# Altium integrated library Wurth-inductor.IntLib: 175 symbols (part 1 of 3)
Pins are listed as number, name and electrical type; pins without a type are passive.

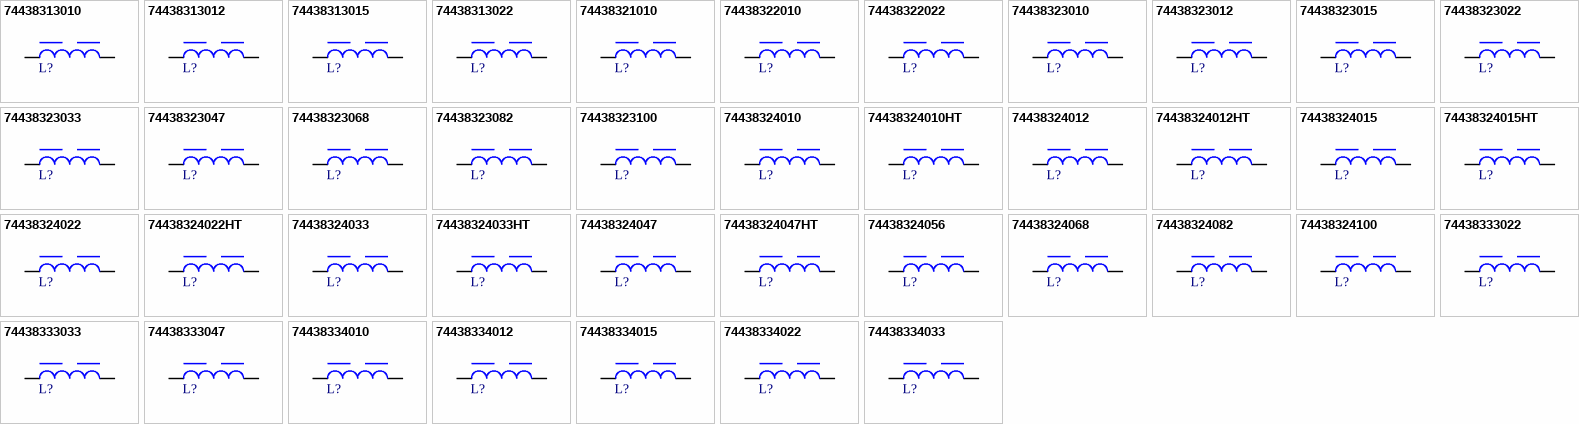
[diagram p0: symbols 74438313010 to 74438334033]

## 74438313010
designator L?, comment 1uH, 1.4A  (value not drawn)
WE-MAPI, size 1610, 1uH, 1.4A, 159mOhm; Manufacturer Part Number: 74438313010; Manufacturer: Wurth Elektronik; Case/Size Code: 1610; DC Resistance: 127mOhm; Saturation Current: 3.4A; Self Resonant Frequency: 111MHz; Match Code: WE-MAPI; ComponentLink1Description: Website Link; ComponentLink1URL: https://www.we-online.com/redexpert/article/74438313010?ad; ComponentLink2Description: Datasheet Link; ComponentLink2URL: https://www.we-online.com/redexpert/spec/74438313010?ad; Mount: Surface Mount; Operating Temperature Max: 125°C; Operating Temperature Min: -40°C; Packaging: Tape and Reel; Length: 1.6mm; Width: 1.6mm; Height: 1mm; DC Resistance Max: 159mOhm; Inductance: 1uH; Rated Current: 1.4A
footprint WE-MAPI_1610
simulation model 1610_74438313010_1u
pins: 1, 2

## 74438313012
designator L?, comment 1.2uH, 1.3A  (value not drawn)
WE-MAPI, size 1610, 1.2uH, 1.3A, 174mOhm; Manufacturer Part Number: 74438313012; Manufacturer: Wurth Elektronik; Case/Size Code: 1610; DC Resistance: 140mOhm; Saturation Current: 3.2A; Self Resonant Frequency: 109MHz; Match Code: WE-MAPI; ComponentLink1Description: Website Link; ComponentLink1URL: https://www.we-online.com/redexpert/article/74438313012?ad; ComponentLink2Description: Datasheet Link; ComponentLink2URL: https://www.we-online.com/redexpert/spec/74438313012?ad; Mount: Surface Mount; Operating Temperature Max: 125°C; Operating Temperature Min: -40°C; Packaging: Tape and Reel; Length: 1.6mm; Width: 1.6mm; Height: 1mm; DC Resistance Max: 174mOhm; Inductance: 1.2uH; Rated Current: 1.3A
footprint WE-MAPI_1610
simulation model 1610_74438313012_1.2u
pins: 1, 2

## 74438313015
designator L?, comment 1.5uH, 0.95A  (value not drawn)
WE-MAPI, size 1610, 1.5uH, 0.95A, 237mOhm; Manufacturer Part Number: 74438313015; Manufacturer: Wurth Elektronik; Case/Size Code: 1610; DC Resistance: 189mOhm; Saturation Current: 2.7A; Self Resonant Frequency: 90MHz; Match Code: WE-MAPI; ComponentLink1Description: Website Link; ComponentLink1URL: https://www.we-online.com/redexpert/article/74438313015?ad; ComponentLink2Description: Datasheet Link; ComponentLink2URL: https://www.we-online.com/redexpert/spec/74438313015?ad; Mount: Surface Mount; Operating Temperature Max: 125°C; Operating Temperature Min: -40°C; Packaging: Tape and Reel; Length: 1.6mm; Width: 1.6mm; Height: 1mm; DC Resistance Max: 237mOhm; Inductance: 1.5uH; Rated Current: 0.95A
footprint WE-MAPI_1610
simulation model 1610_74438313015_1.5u
pins: 1, 2

## 74438313022
designator L?, comment 2.2uH, 0.85A  (value not drawn)
WE-MAPI, size 1610, 2.2uH, 0.85A, 388mOhm; Manufacturer Part Number: 74438313022; Manufacturer: Wurth Elektronik; Case/Size Code: 1610; DC Resistance: 337mOhm; Saturation Current: 2.5A; Self Resonant Frequency: 70MHz; Match Code: WE-MAPI; ComponentLink1Description: Website Link; ComponentLink1URL: https://www.we-online.com/redexpert/article/74438313022?ad; ComponentLink2Description: Datasheet Link; ComponentLink2URL: https://www.we-online.com/redexpert/spec/74438313022?ad; Mount: Surface Mount; Operating Temperature Max: 125°C; Operating Temperature Min: -40°C; Packaging: Tape and Reel; Length: 1.6mm; Width: 1.6mm; Height: 1mm; DC Resistance Max: 388mOhm; Inductance: 2.2uH; Rated Current: 0.85A
footprint WE-MAPI_1610
simulation model 1610_74438313022_2.2u
pins: 1, 2

## 74438321010
designator L?, comment 1uH, 1.25A  (value not drawn)
WE-MAPI, size 2506, 1uH, 1.25A, 196mOhm; Manufacturer Part Number: 74438321010; Manufacturer: Wurth Elektronik; Case/Size Code: 2506; DC Resistance: 163mOhm; Saturation Current: 2.5A; Self Resonant Frequency: 90MHz; Match Code: WE-MAPI; ComponentLink1Description: Website Link; ComponentLink1URL: https://www.we-online.com/redexpert/article/74438321010?ad; ComponentLink2Description: Datasheet Link; ComponentLink2URL: https://www.we-online.com/redexpert/spec/74438321010?ad; Mount: Surface Mount; Operating Temperature Max: 125°C; Operating Temperature Min: -40°C; Packaging: Tape and Reel; Length: 2.5mm; Width: 2mm; Height: 0.6mm; DC Resistance Max: 196mOhm; Inductance: 1uH; Rated Current: 1.25A
footprint WE-MAPI_2506
simulation model 2506_74438321010_1u
pins: 1, 2

## 74438322010
designator L?, comment 1uH, 1.75A  (value not drawn)
WE-MAPI, size 2508, 1uH, 1.75A, 133mOhm; Manufacturer Part Number: 74438322010; Manufacturer: Wurth Elektronik; Case/Size Code: 2508; DC Resistance: 107mOhm; Saturation Current: 3.35A; Self Resonant Frequency: 100MHz; Match Code: WE-MAPI; ComponentLink1Description: Website Link; ComponentLink1URL: https://www.we-online.com/redexpert/article/74438322010?ad; ComponentLink2Description: Datasheet Link; ComponentLink2URL: https://www.we-online.com/redexpert/spec/74438322010?ad; Mount: Surface Mount; Operating Temperature Max: 125°C; Operating Temperature Min: -40°C; Packaging: Tape and Reel; Length: 2.5mm; Width: 2mm; Height: 0.8mm; DC Resistance Max: 133mOhm; Inductance: 1uH; Rated Current: 1.75A
footprint WE-MAPI_2508
simulation model 2508_74438322010_1u
pins: 1, 2

## 74438322022
designator L?, comment 2.2uH, 1.34A  (value not drawn)
WE-MAPI, size 2508, 2.2uH, 1.34A, 302mOhm; Manufacturer Part Number: 74438322022; Manufacturer: Wurth Elektronik; Case/Size Code: 2508; DC Resistance: 252mOhm; Saturation Current: 2.2A; Self Resonant Frequency: 60MHz; Match Code: WE-MAPI; ComponentLink1Description: Website Link; ComponentLink1URL: https://www.we-online.com/redexpert/article/74438322022?ad; ComponentLink2Description: Datasheet Link; ComponentLink2URL: https://www.we-online.com/redexpert/spec/74438322022?ad; Mount: Surface Mount; Operating Temperature Max: 125°C; Operating Temperature Min: -40°C; Packaging: Tape and Reel; Length: 2.5mm; Width: 2mm; Height: 0.8mm; DC Resistance Max: 302mOhm; Inductance: 2.2uH; Rated Current: 1.34A
footprint WE-MAPI_2508
simulation model 2508_74438322022_2.2u
pins: 1, 2

## 74438323010
designator L?, comment 1uH, 2.5A  (value not drawn)
WE-MAPI, size 2510, 1uH, 2.5A, 75mOhm; Manufacturer Part Number: 74438323010; Manufacturer: Wurth Elektronik; Case/Size Code: 2510; DC Resistance: 63mOhm; Saturation Current: 4A; Self Resonant Frequency: 80MHz; Match Code: WE-MAPI; ComponentLink1Description: Website Link; ComponentLink1URL: https://www.we-online.com/redexpert/article/74438323010?ad; ComponentLink2Description: Datasheet Link; ComponentLink2URL: https://www.we-online.com/redexpert/spec/74438323010?ad; Mount: Surface Mount; Operating Temperature Max: 125°C; Operating Temperature Min: -40°C; Packaging: Tape and Reel; Length: 2.5mm; Width: 2mm; Height: 1mm; DC Resistance Max: 75mOhm; Inductance: 1uH; Rated Current: 2.5A
footprint WE-MAPI_2510
simulation model 2510_74438323010_1u
pins: 1, 2

## 74438323012
designator L?, comment 1.2uH, 1.9A  (value not drawn)
WE-MAPI, size 2510, 1.2uH, 1.9A, 106mOhm; Manufacturer Part Number: 74438323012; Manufacturer: Wurth Elektronik; Case/Size Code: 2510; DC Resistance: 82mOhm; Saturation Current: 3.8A; Self Resonant Frequency: 75MHz; Match Code: WE-MAPI; ComponentLink1Description: Website Link; ComponentLink1URL: https://www.we-online.com/redexpert/article/74438323012?ad; ComponentLink2Description: Datasheet Link; ComponentLink2URL: https://www.we-online.com/redexpert/spec/74438323012?ad; Mount: Surface Mount; Operating Temperature Max: 125°C; Operating Temperature Min: -40°C; Packaging: Tape and Reel; Length: 2.5mm; Width: 2mm; Height: 1mm; DC Resistance Max: 106mOhm; Inductance: 1.2uH; Rated Current: 1.9A
footprint WE-MAPI_2510
simulation model 2510_74438323012_1.2u
pins: 1, 2

## 74438323015
designator L?, comment 1.5uH, 1.8A  (value not drawn)
WE-MAPI, size 2510, 1.5uH, 1.8A, 110mOhm; Manufacturer Part Number: 74438323015; Manufacturer: Wurth Elektronik; Case/Size Code: 2510; DC Resistance: 92mOhm; Saturation Current: 3.5A; Self Resonant Frequency: 65MHz; Match Code: WE-MAPI; ComponentLink1Description: Website Link; ComponentLink1URL: https://www.we-online.com/redexpert/article/74438323015?ad; ComponentLink2Description: Datasheet Link; ComponentLink2URL: https://www.we-online.com/redexpert/spec/74438323015?ad; Mount: Surface Mount; Operating Temperature Max: 125°C; Operating Temperature Min: -40°C; Packaging: Tape and Reel; Length: 2.5mm; Width: 2mm; Height: 1mm; DC Resistance Max: 110mOhm; Inductance: 1.5uH; Rated Current: 1.8A
footprint WE-MAPI_2510
simulation model 2510_74438323015_1.5u
pins: 1, 2

## 74438323022
designator L?, comment 2.2uH, 1.3A  (value not drawn)
WE-MAPI, size 2510, 2.2uH, 1.3A, 176mOhm; Manufacturer Part Number: 74438323022; Manufacturer: Wurth Elektronik; Case/Size Code: 2510; DC Resistance: 147mOhm; Saturation Current: 2.5A; Self Resonant Frequency: 60MHz; Match Code: WE-MAPI; ComponentLink1Description: Website Link; ComponentLink1URL: https://www.we-online.com/redexpert/article/74438323022?ad; ComponentLink2Description: Datasheet Link; ComponentLink2URL: https://www.we-online.com/redexpert/spec/74438323022?ad; Mount: Surface Mount; Operating Temperature Max: 125°C; Operating Temperature Min: -40°C; Packaging: Tape and Reel; Length: 2.5mm; Width: 2mm; Height: 1mm; DC Resistance Max: 176mOhm; Inductance: 2.2uH; Rated Current: 1.3A
footprint WE-MAPI_2510
simulation model 2510_74438323022_2.2u
pins: 1, 2

## 74438323033
designator L?, comment 3.3uH, 1.25A  (value not drawn)
WE-MAPI, size 2510, 3.3uH, 1.25A, 264mOhm; Manufacturer Part Number: 74438323033; Manufacturer: Wurth Elektronik; Case/Size Code: 2510; DC Resistance: 220mOhm; Saturation Current: 2.1A; Self Resonant Frequency: 50MHz; Match Code: WE-MAPI; ComponentLink1Description: Website Link; ComponentLink1URL: https://www.we-online.com/redexpert/article/74438323033?ad; ComponentLink2Description: Datasheet Link; ComponentLink2URL: https://www.we-online.com/redexpert/spec/74438323033?ad; Mount: Surface Mount; Operating Temperature Max: 125°C; Operating Temperature Min: -40°C; Packaging: Tape and Reel; Length: 2.5mm; Width: 2mm; Height: 1mm; DC Resistance Max: 264mOhm; Inductance: 3.3uH; Rated Current: 1.25A
footprint WE-MAPI_2510
simulation model 2510_74438323033_3.3u
pins: 1, 2

## 74438323047
designator L?, comment 4.7uH, 0.94A  (value not drawn)
WE-MAPI, size 2510, 4.7uH, 0.94A, 388mOhm; Manufacturer Part Number: 74438323047; Manufacturer: Wurth Elektronik; Case/Size Code: 2510; DC Resistance: 338mOhm; Saturation Current: 1.75A; Self Resonant Frequency: 35MHz; Match Code: WE-MAPI; ComponentLink1Description: Website Link; ComponentLink1URL: https://www.we-online.com/redexpert/article/74438323047?ad; ComponentLink2Description: Datasheet Link; ComponentLink2URL: https://www.we-online.com/redexpert/spec/74438323047?ad; Mount: Surface Mount; Operating Temperature Max: 125°C; Operating Temperature Min: -40°C; Packaging: Tape and Reel; Length: 2.5mm; Width: 2mm; Height: 1mm; DC Resistance Max: 388mOhm; Inductance: 4.7uH; Rated Current: 0.94A
footprint WE-MAPI_2510
simulation model 2510_74438323047_4.7u
pins: 1, 2

## 74438323068
designator L?, comment 6.8uH, 0.85A  (value not drawn)
WE-MAPI, size 2510, 6.8uH, 0.85A, 648mOhm; Manufacturer Part Number: 74438323068; Manufacturer: Wurth Elektronik; Case/Size Code: 2510; DC Resistance: 563mOhm; Saturation Current: 1.55A; Self Resonant Frequency: 30MHz; Match Code: WE-MAPI; ComponentLink1Description: Website Link; ComponentLink1URL: https://www.we-online.com/redexpert/article/74438323068?ad; ComponentLink2Description: Datasheet Link; ComponentLink2URL: https://www.we-online.com/redexpert/spec/74438323068?ad; Mount: Surface Mount; Operating Temperature Max: 125°C; Operating Temperature Min: -40°C; Packaging: Tape and Reel; Length: 2.5mm; Width: 2mm; Height: 1mm; DC Resistance Max: 648mOhm; Inductance: 6.8uH; Rated Current: 0.85A
footprint WE-MAPI_2510
simulation model 2510_74438323068_6.8u
pins: 1, 2

## 74438323082
designator L?, comment 8.2uH, 0.7A  (value not drawn)
WE-MAPI, size 2510, 8.2uH, 0.7A, 743mOhm; Manufacturer Part Number: 74438323082; Manufacturer: Wurth Elektronik; Case/Size Code: 2510; DC Resistance: 646mOhm; Saturation Current: 1.45A; Self Resonant Frequency: 27MHz; Match Code: WE-MAPI; ComponentLink1Description: Website Link; ComponentLink1URL: https://www.we-online.com/redexpert/article/74438323082?ad; ComponentLink2Description: Datasheet Link; ComponentLink2URL: https://www.we-online.com/redexpert/spec/74438323082?ad; Mount: Surface Mount; Operating Temperature Max: 125°C; Operating Temperature Min: -40°C; Packaging: Tape and Reel; Length: 2.5mm; Width: 2mm; Height: 1mm; DC Resistance Max: 743mOhm; Inductance: 8.2uH; Rated Current: 0.7A
footprint WE-MAPI_2510
simulation model 2510_74438323082_8.2u
pins: 1, 2

## 74438323100
designator L?, comment 10uH, 0.6A  (value not drawn)
WE-MAPI, size 2510, 10uH, 0.6A, 843mOhm; Manufacturer Part Number: 74438323100; Manufacturer: Wurth Elektronik; Case/Size Code: 2510; DC Resistance: 733mOhm; Saturation Current: 1.35A; Self Resonant Frequency: 25MHz; Match Code: WE-MAPI; ComponentLink1Description: Website Link; ComponentLink1URL: https://www.we-online.com/redexpert/article/74438323100?ad; ComponentLink2Description: Datasheet Link; ComponentLink2URL: https://www.we-online.com/redexpert/spec/74438323100?ad; Mount: Surface Mount; Operating Temperature Max: 125°C; Operating Temperature Min: -40°C; Packaging: Tape and Reel; Length: 2.5mm; Width: 2mm; Height: 1mm; DC Resistance Max: 843mOhm; Inductance: 10uH; Rated Current: 0.6A
footprint WE-MAPI_2510
simulation model 2510_74438323100_10u
pins: 1, 2

## 74438324010
designator L?, comment 1uH, 2.8A  (value not drawn)
WE-MAPI, size 2512, 1uH, 2.8A, 60mOhm; Manufacturer Part Number: 74438324010; Manufacturer: Wurth Elektronik; Case/Size Code: 2512; DC Resistance: 49mOhm; Saturation Current: 4.9A; Self Resonant Frequency: 85MHz; Match Code: WE-MAPI; ComponentLink1Description: Website Link; ComponentLink1URL: https://www.we-online.com/redexpert/article/74438324010?ad; ComponentLink2Description: Datasheet Link; ComponentLink2URL: https://www.we-online.com/redexpert/spec/74438324010?ad; Mount: Surface Mount; Operating Temperature Max: 125°C; Operating Temperature Min: -40°C; Packaging: Tape and Reel; Length: 2.5mm; Width: 2mm; Height: 1.2mm; DC Resistance Max: 60mOhm; Inductance: 1uH; Rated Current: 2.8A
footprint WE-MAPI_2512
simulation model 2512_74438324010_1u
pins: 1, 2

## 74438324010HT
designator L?, comment 1uH, 3.9A  (value not drawn)
WE-MAPI, size 2512, 1uH, 3.9A, 61.5mOhm; Manufacturer Part Number: 74438324010HT; Manufacturer: Wurth Elektronik; Case/Size Code: 2512; Operating Voltage (DC): 80V; Saturation Current: 4.8A; Self Resonant Frequency: 71MHz; Match Code: WE-MAPI; ComponentLink1Description: Website Link; ComponentLink1URL: https://www.we-online.com/redexpert/article/74438324010HT?ad; ComponentLink2Description: Datasheet Link; ComponentLink2URL: https://www.we-online.com/redexpert/spec/74438324010HT?ad; Mount: Surface Mount; Operating Temperature Max: 150°C; Operating Temperature Min: -55°C; Packaging: Tape and Reel; Length: 2.5mm; Width: 2mm; Height: 1.2mm; DC Resistance Max: 61.5mOhm; Inductance: 1uH; Rated Current: 3.9A
footprint WE-MAPI_2512
simulation model 2512HT_74438324010HT_1u
pins: 1, 2

## 74438324012
designator L?, comment 1.2uH, 2.4A  (value not drawn)
WE-MAPI, size 2512, 1.2uH, 2.4A, 80mOhm; Manufacturer Part Number: 74438324012; Manufacturer: Wurth Elektronik; Case/Size Code: 2512; DC Resistance: 67mOhm; Saturation Current: 4.5A; Self Resonant Frequency: 80MHz; Match Code: WE-MAPI; ComponentLink1Description: Website Link; ComponentLink1URL: https://www.we-online.com/redexpert/article/74438324012?ad; ComponentLink2Description: Datasheet Link; ComponentLink2URL: https://www.we-online.com/redexpert/spec/74438324012?ad; Mount: Surface Mount; Operating Temperature Max: 125°C; Operating Temperature Min: -40°C; Packaging: Tape and Reel; Length: 2.5mm; Width: 2mm; Height: 1.2mm; DC Resistance Max: 80mOhm; Inductance: 1.2uH; Rated Current: 2.4A
footprint WE-MAPI_2512
simulation model 2512_74438324012_1.2u
pins: 1, 2

## 74438324012HT
designator L?, comment 1.2uH, 3.5A  (value not drawn)
WE-MAPI, size 2512, 1.2uH, 3.5A, 74.7mOhm; Manufacturer Part Number: 74438324012HT; Manufacturer: Wurth Elektronik; Case/Size Code: 2512; Operating Voltage (DC): 80V; Saturation Current: 4.7A; Self Resonant Frequency: 67MHz; Match Code: WE-MAPI; ComponentLink1Description: Website Link; ComponentLink1URL: https://www.we-online.com/redexpert/article/74438324012HT?ad; ComponentLink2Description: Datasheet Link; ComponentLink2URL: https://www.we-online.com/redexpert/spec/74438324012HT?ad; Mount: Surface Mount; Operating Temperature Max: 150°C; Operating Temperature Min: -55°C; Packaging: Tape and Reel; Length: 2.5mm; Width: 2mm; Height: 1.2mm; DC Resistance Max: 74.7mOhm; Inductance: 1.2uH; Rated Current: 3.5A
footprint WE-MAPI_2512
simulation model 2512HT_74438324012HT_1.2u
pins: 1, 2

## 74438324015
designator L?, comment 1.5uH, 2.2A  (value not drawn)
WE-MAPI, size 2512, 1.5uH, 2.2A, 99mOhm; Manufacturer Part Number: 74438324015; Manufacturer: Wurth Elektronik; Case/Size Code: 2512; DC Resistance: 82mOhm; Saturation Current: 3.7A; Self Resonant Frequency: 60MHz; Match Code: WE-MAPI; ComponentLink1Description: Website Link; ComponentLink1URL: https://www.we-online.com/redexpert/article/74438324015?ad; ComponentLink2Description: Datasheet Link; ComponentLink2URL: https://www.we-online.com/redexpert/spec/74438324015?ad; Mount: Surface Mount; Operating Temperature Max: 125°C; Operating Temperature Min: -40°C; Packaging: Tape and Reel; Length: 2.5mm; Width: 2mm; Height: 1.2mm; DC Resistance Max: 99mOhm; Inductance: 1.5uH; Rated Current: 2.2A
footprint WE-MAPI_2512
simulation model 2512_74438324015_1.5u
pins: 1, 2

## 74438324015HT
designator L?, comment 1.5uH, 4.7A  (value not drawn)
WE-MAPI, size 2512, 1.5uH, 4.7A, 102.1mOhm; Manufacturer Part Number: 74438324015HT; Manufacturer: Wurth Elektronik; Case/Size Code: 2512; Operating Voltage (DC): 80V; Saturation Current: 4A; Self Resonant Frequency: 56MHz; Match Code: WE-MAPI; ComponentLink1Description: Website Link; ComponentLink1URL: https://www.we-online.com/redexpert/article/74438324015HT?ad; ComponentLink2Description: Datasheet Link; ComponentLink2URL: https://www.we-online.com/redexpert/spec/74438324015HT?ad; Mount: Surface Mount; Operating Temperature Max: 150°C; Operating Temperature Min: -55°C; Packaging: Tape and Reel; Length: 2.5mm; Width: 2mm; Height: 1.2mm; DC Resistance Max: 102.1mOhm; Inductance: 1.5uH; Rated Current: 4.7A
footprint WE-MAPI_2512
simulation model 2512HT_74438324015HT_1.5u
pins: 1, 2

## 74438324022
designator L?, comment 2.2uH, 1.6A  (value not drawn)
WE-MAPI, size 2512, 2.2uH, 1.6A, 141mOhm; Manufacturer Part Number: 74438324022; Manufacturer: Wurth Elektronik; Case/Size Code: 2512; DC Resistance: 123mOhm; Saturation Current: 2.9A; Self Resonant Frequency: 57MHz; Match Code: WE-MAPI; ComponentLink1Description: Website Link; ComponentLink1URL: https://www.we-online.com/redexpert/article/74438324022?ad; ComponentLink2Description: Datasheet Link; ComponentLink2URL: https://www.we-online.com/redexpert/spec/74438324022?ad; Mount: Surface Mount; Operating Temperature Max: 125°C; Operating Temperature Min: -40°C; Packaging: Tape and Reel; Length: 2.5mm; Width: 2mm; Height: 1.2mm; DC Resistance Max: 141mOhm; Inductance: 2.2uH; Rated Current: 1.6A
footprint WE-MAPI_2512
simulation model 2512_74438324022_2.2u
pins: 1, 2

## 74438324022HT
designator L?, comment 2.2uH, 2.2A  (value not drawn)
WE-MAPI, size 2512, 2.2uH, 2.2A, 162.5mOhm; Manufacturer Part Number: 74438324022HT; Manufacturer: Wurth Elektronik; Case/Size Code: 2512; Operating Voltage (DC): 80V; Saturation Current: 3.5A; Self Resonant Frequency: 53MHz; Match Code: WE-MAPI; ComponentLink1Description: Website Link; ComponentLink1URL: https://www.we-online.com/redexpert/article/74438324022HT?ad; ComponentLink2Description: Datasheet Link; ComponentLink2URL: https://www.we-online.com/redexpert/spec/74438324022HT?ad; Mount: Surface Mount; Operating Temperature Max: 150°C; Operating Temperature Min: -55°C; Packaging: Tape and Reel; Length: 2.5mm; Width: 2mm; Height: 1.2mm; DC Resistance Max: 162.5mOhm; Inductance: 2.2uH; Rated Current: 2.2A
footprint WE-MAPI_2512
simulation model 2512HT_74438324022HT_2.2u
pins: 1, 2

## 74438324033
designator L?, comment 3.3uH, 1.3A  (value not drawn)
WE-MAPI, size 2512, 3.3uH, 1.3A, 260mOhm; Manufacturer Part Number: 74438324033; Manufacturer: Wurth Elektronik; Case/Size Code: 2512; DC Resistance: 226mOhm; Saturation Current: 2.6A; Self Resonant Frequency: 42MHz; Match Code: WE-MAPI; ComponentLink1Description: Website Link; ComponentLink1URL: https://www.we-online.com/redexpert/article/74438324033?ad; ComponentLink2Description: Datasheet Link; ComponentLink2URL: https://www.we-online.com/redexpert/spec/74438324033?ad; Mount: Surface Mount; Operating Temperature Max: 125°C; Operating Temperature Min: -40°C; Packaging: Tape and Reel; Length: 2.5mm; Width: 2mm; Height: 1.2mm; DC Resistance Max: 260mOhm; Inductance: 3.3uH; Rated Current: 1.3A
footprint WE-MAPI_2512
simulation model 2512_74438324033_3.3u
pins: 1, 2

## 74438324033HT
designator L?, comment 3.3uH, 1.7A  (value not drawn)
WE-MAPI, size 2512, 3.3uH, 1.7A, 274.7mOhm; Manufacturer Part Number: 74438324033HT; Manufacturer: Wurth Elektronik; Case/Size Code: 2512; Operating Voltage (DC): 80V; Saturation Current: 3A; Self Resonant Frequency: 42MHz; Match Code: WE-MAPI; ComponentLink1Description: Website Link; ComponentLink1URL: https://www.we-online.com/redexpert/article/74438324033HT?ad; ComponentLink2Description: Datasheet Link; ComponentLink2URL: https://www.we-online.com/redexpert/spec/74438324033HT?ad; Mount: Surface Mount; Operating Temperature Max: 150°C; Operating Temperature Min: -55°C; Packaging: Tape and Reel; Length: 2.5mm; Width: 2mm; Height: 1.2mm; DC Resistance Max: 274.7mOhm; Inductance: 3.3uH; Rated Current: 1.7A
footprint WE-MAPI_2512
simulation model 2512HT_74438324033HT_3.3u
pins: 1, 2

## 74438324047
designator L?, comment 4.7uH, 1A  (value not drawn)
WE-MAPI, size 2512, 4.7uH, 1A, 345mOhm; Manufacturer Part Number: 74438324047; Manufacturer: Wurth Elektronik; Case/Size Code: 2512; DC Resistance: 300mOhm; Saturation Current: 2.1A; Self Resonant Frequency: 35MHz; Match Code: WE-MAPI; ComponentLink1Description: Website Link; ComponentLink1URL: https://www.we-online.com/redexpert/article/74438324047?ad; ComponentLink2Description: Datasheet Link; ComponentLink2URL: https://www.we-online.com/redexpert/spec/74438324047?ad; Mount: Surface Mount; Operating Temperature Max: 125°C; Operating Temperature Min: -40°C; Packaging: Tape and Reel; Length: 2.5mm; Width: 2mm; Height: 1.2mm; DC Resistance Max: 345mOhm; Inductance: 4.7uH; Rated Current: 1A
footprint WE-MAPI_2512
simulation model 2512_74438324047_4.7u
pins: 1, 2

## 74438324047HT
designator L?, comment 4.7uH, 1.4A  (value not drawn)
WE-MAPI, size 2512, 4.7uH, 1.4A, 367.6mOhm; Manufacturer Part Number: 74438324047HT; Manufacturer: Wurth Elektronik; Case/Size Code: 2512; Operating Voltage (DC): 80V; Saturation Current: 2.4A; Self Resonant Frequency: 33MHz; Match Code: WE-MAPI; ComponentLink1Description: Website Link; ComponentLink1URL: https://www.we-online.com/redexpert/article/74438324047HT?ad; ComponentLink2Description: Datasheet Link; ComponentLink2URL: https://www.we-online.com/redexpert/spec/74438324047HT?ad; Mount: Surface Mount; Operating Temperature Max: 150°C; Operating Temperature Min: -55°C; Packaging: Tape and Reel; Length: 2.5mm; Width: 2mm; Height: 1.2mm; DC Resistance Max: 367.6mOhm; Inductance: 4.7uH; Rated Current: 1.4A
footprint WE-MAPI_2512
simulation model 2512HT_74438324047HT_4.7u
pins: 1, 2

## 74438324056
designator L?, comment 5.6uH, 0.95A  (value not drawn)
WE-MAPI, size 2512, 5.6uH, 0.95A, 465mOhm; Manufacturer Part Number: 74438324056; Manufacturer: Wurth Elektronik; Case/Size Code: 2512; DC Resistance: 405mOhm; Saturation Current: 1.75A; Self Resonant Frequency: 30MHz; Match Code: WE-MAPI; ComponentLink1Description: Website Link; ComponentLink1URL: https://www.we-online.com/redexpert/article/74438324056?ad; ComponentLink2Description: Datasheet Link; ComponentLink2URL: https://www.we-online.com/redexpert/spec/74438324056?ad; Mount: Surface Mount; Operating Temperature Max: 125°C; Operating Temperature Min: -40°C; Packaging: Tape and Reel; Length: 2.5mm; Width: 2mm; Height: 1.2mm; DC Resistance Max: 465mOhm; Inductance: 5.6uH; Rated Current: 0.95A
footprint WE-MAPI_2512
simulation model 2512_74438324056_5.6u
pins: 1, 2

## 74438324068
designator L?, comment 6.8uH, 0.9A  (value not drawn)
WE-MAPI, size 2512, 6.8uH, 0.9A, 640mOhm; Manufacturer Part Number: 74438324068; Manufacturer: Wurth Elektronik; Case/Size Code: 2512; DC Resistance: 560mOhm; Saturation Current: 1.6A; Self Resonant Frequency: 27MHz; Match Code: WE-MAPI; ComponentLink1Description: Website Link; ComponentLink1URL: https://www.we-online.com/redexpert/article/74438324068?ad; ComponentLink2Description: Datasheet Link; ComponentLink2URL: https://www.we-online.com/redexpert/spec/74438324068?ad; Mount: Surface Mount; Operating Temperature Max: 125°C; Operating Temperature Min: -40°C; Packaging: Tape and Reel; Length: 2.5mm; Width: 2mm; Height: 1.2mm; DC Resistance Max: 640mOhm; Inductance: 6.8uH; Rated Current: 0.9A
footprint WE-MAPI_2512
simulation model 2512_74438324068_6.8u
pins: 1, 2

## 74438324082
designator L?, comment 8.2uH, 0.8A  (value not drawn)
WE-MAPI, size 2512, 8.2uH, 0.8A, 720mOhm; Manufacturer Part Number: 74438324082; Manufacturer: Wurth Elektronik; Case/Size Code: 2512; DC Resistance: 630mOhm; Saturation Current: 1.5A; Self Resonant Frequency: 25MHz; Match Code: WE-MAPI; ComponentLink1Description: Website Link; ComponentLink1URL: https://www.we-online.com/redexpert/article/74438324082?ad; ComponentLink2Description: Datasheet Link; ComponentLink2URL: https://www.we-online.com/redexpert/spec/74438324082?ad; Mount: Surface Mount; Operating Temperature Max: 125°C; Operating Temperature Min: -40°C; Packaging: Tape and Reel; Length: 2.5mm; Width: 2mm; Height: 1.2mm; DC Resistance Max: 720mOhm; Inductance: 8.2uH; Rated Current: 0.8A
footprint WE-MAPI_2512
simulation model 2512_74438324082_8.2u
pins: 1, 2

## 74438324100
designator L?, comment 10uH, 0.7A  (value not drawn)
WE-MAPI, size 2512, 10uH, 0.7A, 780mOhm; Manufacturer Part Number: 74438324100; Manufacturer: Wurth Elektronik; Case/Size Code: 2512; DC Resistance: 680mOhm; Saturation Current: 1.4A; Self Resonant Frequency: 23MHz; Match Code: WE-MAPI; ComponentLink1Description: Website Link; ComponentLink1URL: https://www.we-online.com/redexpert/article/74438324100?ad; ComponentLink2Description: Datasheet Link; ComponentLink2URL: https://www.we-online.com/redexpert/spec/74438324100?ad; Mount: Surface Mount; Operating Temperature Max: 125°C; Operating Temperature Min: -40°C; Packaging: Tape and Reel; Length: 2.5mm; Width: 2mm; Height: 1.2mm; DC Resistance Max: 780mOhm; Inductance: 10uH; Rated Current: 0.7A
footprint WE-MAPI_2512
simulation model 2512_74438324100_10u
pins: 1, 2

## 74438333022
designator L?, comment 2.2uH, 1.4A  (value not drawn)
WE-MAPI, size 3010, 2.2uH, 1.4A, 172mOhm; Manufacturer Part Number: 74438333022; Manufacturer: Wurth Elektronik; Case/Size Code: 3010; DC Resistance: 150mOhm; Saturation Current: 3.9A; Self Resonant Frequency: 50MHz; Match Code: WE-MAPI; ComponentLink1Description: Website Link; ComponentLink1URL: https://www.we-online.com/redexpert/article/74438333022?ad; ComponentLink2Description: Datasheet Link; ComponentLink2URL: https://www.we-online.com/redexpert/spec/74438333022?ad; Mount: Surface Mount; Operating Temperature Max: 125°C; Operating Temperature Min: -40°C; Packaging: Tape and Reel; Length: 3mm; Width: 3mm; Height: 1mm; DC Resistance Max: 172mOhm; Inductance: 2.2uH; Rated Current: 1.4A
footprint WE-MAPI_3010
simulation model 3010_74438333022_2.2u
pins: 1, 2

## 74438333033
designator L?, comment 3.3uH, 1.1A  (value not drawn)
WE-MAPI, size 3010, 3.3uH, 1.1A, 266mOhm; Manufacturer Part Number: 74438333033; Manufacturer: Wurth Elektronik; Case/Size Code: 3010; DC Resistance: 232mOhm; Saturation Current: 2.95A; Self Resonant Frequency: 38MHz; Match Code: WE-MAPI; ComponentLink1Description: Website Link; ComponentLink1URL: https://www.we-online.com/redexpert/article/74438333033?ad; ComponentLink2Description: Datasheet Link; ComponentLink2URL: https://www.we-online.com/redexpert/spec/74438333033?ad; Mount: Surface Mount; Operating Temperature Max: 125°C; Operating Temperature Min: -40°C; Packaging: Tape and Reel; Length: 3mm; Width: 3mm; Height: 1mm; DC Resistance Max: 266mOhm; Inductance: 3.3uH; Rated Current: 1.1A
footprint WE-MAPI_3010
simulation model 3010_74438333033_3.3u
pins: 1, 2

## 74438333047
designator L?, comment 4.7uH, 0.9A  (value not drawn)
WE-MAPI, size 3010, 4.7uH, 0.9A, 409mOhm; Manufacturer Part Number: 74438333047; Manufacturer: Wurth Elektronik; Case/Size Code: 3010; DC Resistance: 356mOhm; Saturation Current: 2.4A; Self Resonant Frequency: 35MHz; Match Code: WE-MAPI; ComponentLink1Description: Website Link; ComponentLink1URL: https://www.we-online.com/redexpert/article/74438333047?ad; ComponentLink2Description: Datasheet Link; ComponentLink2URL: https://www.we-online.com/redexpert/spec/74438333047?ad; Mount: Surface Mount; Operating Temperature Max: 125°C; Operating Temperature Min: -40°C; Packaging: Tape and Reel; Length: 3mm; Width: 3mm; Height: 1mm; DC Resistance Max: 409mOhm; Inductance: 4.7uH; Rated Current: 0.9A
footprint WE-MAPI_3010
simulation model 3010_74438333047_4.7u
pins: 1, 2

## 74438334010
designator L?, comment 1uH, 2.75A  (value not drawn)
WE-MAPI, size 3012, 1uH, 2.75A, 50.5mOhm; Manufacturer Part Number: 74438334010; Manufacturer: Wurth Elektronik; Case/Size Code: 3012; DC Resistance: 42.1mOhm; Saturation Current: 6.6A; Self Resonant Frequency: 80MHz; Match Code: WE-MAPI; ComponentLink1Description: Website Link; ComponentLink1URL: https://www.we-online.com/redexpert/article/74438334010?ad; ComponentLink2Description: Datasheet Link; ComponentLink2URL: https://www.we-online.com/redexpert/spec/74438334010?ad; Mount: Surface Mount; Operating Temperature Max: 125°C; Operating Temperature Min: -40°C; Packaging: Tape and Reel; Length: 3mm; Width: 3mm; Height: 1.2mm; DC Resistance Max: 50.5mOhm; Inductance: 1uH; Rated Current: 2.75A
footprint WE-MAPI_3012
simulation model 3012_74438334010_1u
pins: 1, 2

## 74438334012
designator L?, comment 1.2uH, 2.65A  (value not drawn)
WE-MAPI, size 3012, 1.2uH, 2.65A, 66mOhm; Manufacturer Part Number: 74438334012; Manufacturer: Wurth Elektronik; Case/Size Code: 3012; DC Resistance: 55mOhm; Saturation Current: 6A; Self Resonant Frequency: 66MHz; Match Code: WE-MAPI; ComponentLink1Description: Website Link; ComponentLink1URL: https://www.we-online.com/redexpert/article/74438334012?ad; ComponentLink2Description: Datasheet Link; ComponentLink2URL: https://www.we-online.com/redexpert/spec/74438334012?ad; Mount: Surface Mount; Operating Temperature Max: 125°C; Operating Temperature Min: -40°C; Packaging: Tape and Reel; Length: 3mm; Width: 3mm; Height: 1.2mm; DC Resistance Max: 66mOhm; Inductance: 1.2uH; Rated Current: 2.65A
footprint WE-MAPI_3012
simulation model 3012_74438334012_1.2u
pins: 1, 2

## 74438334015
designator L?, comment 1.5uH, 2A  (value not drawn)
WE-MAPI, size 3012, 1.5uH, 2A, 96mOhm; Manufacturer Part Number: 74438334015; Manufacturer: Wurth Elektronik; Case/Size Code: 3012; DC Resistance: 80mOhm; Saturation Current: 5.7A; Self Resonant Frequency: 60MHz; Match Code: WE-MAPI; ComponentLink1Description: Website Link; ComponentLink1URL: https://www.we-online.com/redexpert/article/74438334015?ad; ComponentLink2Description: Datasheet Link; ComponentLink2URL: https://www.we-online.com/redexpert/spec/74438334015?ad; Mount: Surface Mount; Operating Temperature Max: 125°C; Operating Temperature Min: -40°C; Packaging: Tape and Reel; Length: 3mm; Width: 3mm; Height: 1.2mm; DC Resistance Max: 96mOhm; Inductance: 1.5uH; Rated Current: 2A
footprint WE-MAPI_3012
simulation model 3012_74438334015_1.5u
pins: 1, 2

## 74438334022
designator L?, comment 2.2uH, 1.8A  (value not drawn)
WE-MAPI, size 3012, 2.2uH, 1.8A, 115mOhm; Manufacturer Part Number: 74438334022; Manufacturer: Wurth Elektronik; Case/Size Code: 3012; DC Resistance: 100mOhm; Saturation Current: 5A; Self Resonant Frequency: 50MHz; Match Code: WE-MAPI; ComponentLink1Description: Website Link; ComponentLink1URL: https://www.we-online.com/redexpert/article/74438334022?ad; ComponentLink2Description: Datasheet Link; ComponentLink2URL: https://www.we-online.com/redexpert/spec/74438334022?ad; Mount: Surface Mount; Operating Temperature Max: 125°C; Operating Temperature Min: -40°C; Packaging: Tape and Reel; Length: 3mm; Width: 3mm; Height: 1.2mm; DC Resistance Max: 115mOhm; Inductance: 2.2uH; Rated Current: 1.8A
footprint WE-MAPI_3012
simulation model 3012_74438334022_2.2u
pins: 1, 2

## 74438334033
designator L?, comment 3.3uH, 1.4A  (value not drawn)
WE-MAPI, size 3012, 3.3uH, 1.4A, 179.7mOhm; Manufacturer Part Number: 74438334033; Manufacturer: Wurth Elektronik; Case/Size Code: 3012; DC Resistance: 156.3mOhm; Saturation Current: 4A; Self Resonant Frequency: 36MHz; Match Code: WE-MAPI; ComponentLink1Description: Website Link; ComponentLink1URL: https://www.we-online.com/redexpert/article/74438334033?ad; ComponentLink2Description: Datasheet Link; ComponentLink2URL: https://www.we-online.com/redexpert/spec/74438334033?ad; Mount: Surface Mount; Operating Temperature Max: 125°C; Operating Temperature Min: -40°C; Packaging: Tape and Reel; Length: 3mm; Width: 3mm; Height: 1.2mm; DC Resistance Max: 179.7mOhm; Inductance: 3.3uH; Rated Current: 1.4A
footprint WE-MAPI_3012
simulation model 3012_74438334033_3.3u
pins: 1, 2

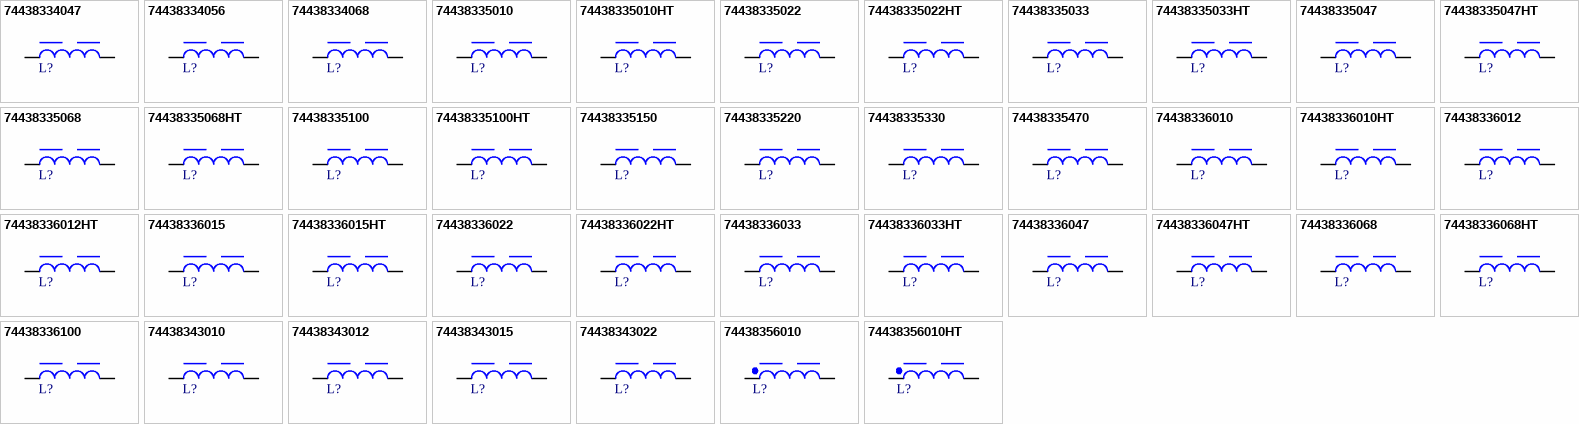
[diagram p1: symbols 74438334047 to 74438356010HT]

## 74438334047
designator L?, comment 4.7uH, 1.1A  (value not drawn)
WE-MAPI, size 3012, 4.7uH, 1.1A, 307.8mOhm; Manufacturer Part Number: 74438334047; Manufacturer: Wurth Elektronik; Case/Size Code: 3012; DC Resistance: 267.7mOhm; Saturation Current: 3.8A; Self Resonant Frequency: 30MHz; Match Code: WE-MAPI; ComponentLink1Description: Website Link; ComponentLink1URL: https://www.we-online.com/redexpert/article/74438334047?ad; ComponentLink2Description: Datasheet Link; ComponentLink2URL: https://www.we-online.com/redexpert/spec/74438334047?ad; Mount: Surface Mount; Operating Temperature Max: 125°C; Operating Temperature Min: -40°C; Packaging: Tape and Reel; Length: 3mm; Width: 3mm; Height: 1.2mm; DC Resistance Max: 307.8mOhm; Inductance: 4.7uH; Rated Current: 1.1A
footprint WE-MAPI_3012
simulation model 3012_74438334047_4.7u
pins: 1, 2

## 74438334056
designator L?, comment 5.6uH, 1A  (value not drawn)
WE-MAPI, size 3012, 5.6uH, 1A, 389mOhm; Manufacturer Part Number: 74438334056; Manufacturer: Wurth Elektronik; Case/Size Code: 3012; DC Resistance: 338.3mOhm; Saturation Current: 3A; Self Resonant Frequency: 28MHz; Match Code: WE-MAPI; ComponentLink1Description: Website Link; ComponentLink1URL: https://www.we-online.com/redexpert/article/74438334056?ad; ComponentLink2Description: Datasheet Link; ComponentLink2URL: https://www.we-online.com/redexpert/spec/74438334056?ad; Mount: Surface Mount; Operating Temperature Max: 125°C; Operating Temperature Min: -40°C; Packaging: Tape and Reel; Length: 3mm; Width: 3mm; Height: 1.2mm; DC Resistance Max: 389mOhm; Inductance: 5.6uH; Rated Current: 1A
footprint WE-MAPI_3012
simulation model 3012_74438334056_5.6u
pins: 1, 2

## 74438334068
designator L?, comment 6.8uH, 0.88A  (value not drawn)
WE-MAPI, size 3012, 6.8uH, 0.88A, 423.4mOhm; Manufacturer Part Number: 74438334068; Manufacturer: Wurth Elektronik; Case/Size Code: 3012; DC Resistance: 368.2mOhm; Saturation Current: 2.7A; Self Resonant Frequency: 25MHz; Match Code: WE-MAPI; ComponentLink1Description: Website Link; ComponentLink1URL: https://www.we-online.com/redexpert/article/74438334068?ad; ComponentLink2Description: Datasheet Link; ComponentLink2URL: https://www.we-online.com/redexpert/spec/74438334068?ad; Mount: Surface Mount; Operating Temperature Max: 125°C; Operating Temperature Min: -40°C; Packaging: Tape and Reel; Length: 3mm; Width: 3mm; Height: 1.2mm; DC Resistance Max: 423.4mOhm; Inductance: 6.8uH; Rated Current: 0.88A
footprint WE-MAPI_3012
simulation model 3012_74438334068_6.8u
pins: 1, 2

## 74438335010
designator L?, comment 1uH, 2.7A  (value not drawn)
WE-MAPI, size 3015, 1uH, 2.7A, 47mOhm; Manufacturer Part Number: 74438335010; Manufacturer: Wurth Elektronik; Case/Size Code: 3015; DC Resistance: 39mOhm; Saturation Current: 4.5A; Self Resonant Frequency: 72MHz; Match Code: WE-MAPI; ComponentLink1Description: Website Link; ComponentLink1URL: https://www.we-online.com/redexpert/article/74438335010?ad; ComponentLink2Description: Datasheet Link; ComponentLink2URL: https://www.we-online.com/redexpert/spec/74438335010?ad; Mount: Surface Mount; Operating Temperature Max: 125°C; Operating Temperature Min: -40°C; Packaging: Tape and Reel; Length: 3mm; Width: 3mm; Height: 1.5mm; DC Resistance Max: 47mOhm; Inductance: 1uH; Rated Current: 2.7A
footprint WE-MAPI_3015
simulation model 3015_74438335010_1u
pins: 1, 2

## 74438335010HT
designator L?, comment 1uH, 4.5A  (value not drawn)
WE-MAPI, size 3015, 1uH, 4.5A, 53.2mOhm; Manufacturer Part Number: 74438335010HT; Manufacturer: Wurth Elektronik; Case/Size Code: 3015; Operating Voltage (DC): 80V; Saturation Current: 5.9A; Self Resonant Frequency: 73MHz; Match Code: WE-MAPI; ComponentLink1Description: Website Link; ComponentLink1URL: https://www.we-online.com/redexpert/article/74438335010HT?ad; ComponentLink2Description: Datasheet Link; ComponentLink2URL: https://www.we-online.com/redexpert/spec/74438335010HT?ad; Mount: Surface Mount; Operating Temperature Max: 150°C; Operating Temperature Min: -55°C; Packaging: Tape and Reel; Length: 3mm; Width: 1.5mm; Height: 1.5mm; DC Resistance Max: 53.2mOhm; Inductance: 1uH; Rated Current: 4.5A
footprint WE-MAPI_3015
simulation model 3015HT_74438335010HT_1u
pins: 1, 2

## 74438335022
designator L?, comment 2.2uH, 1.8A  (value not drawn)
WE-MAPI, size 3015, 2.2uH, 1.8A, 108mOhm; Manufacturer Part Number: 74438335022; Manufacturer: Wurth Elektronik; Case/Size Code: 3015; DC Resistance: 94mOhm; Saturation Current: 3.5A; Self Resonant Frequency: 45MHz; Match Code: WE-MAPI; ComponentLink1Description: Website Link; ComponentLink1URL: https://www.we-online.com/redexpert/article/74438335022?ad; ComponentLink2Description: Datasheet Link; ComponentLink2URL: https://www.we-online.com/redexpert/spec/74438335022?ad; Mount: Surface Mount; Operating Temperature Max: 125°C; Operating Temperature Min: -40°C; Packaging: Tape and Reel; Length: 3mm; Width: 3mm; Height: 1.5mm; DC Resistance Max: 108mOhm; Inductance: 2.2uH; Rated Current: 1.8A
footprint WE-MAPI_3015
simulation model 3015_74438335022_2.2u
pins: 1, 2

## 74438335022HT
designator L?, comment 2.2uH, 3.2A  (value not drawn)
WE-MAPI, size 3015, 2.2uH, 3.2A, 96mOhm; Manufacturer Part Number: 74438335022HT; Manufacturer: Wurth Elektronik; Case/Size Code: 3015; Operating Voltage (DC): 80V; Saturation Current: 5A; Self Resonant Frequency: 42MHz; Match Code: WE-MAPI; ComponentLink1Description: Website Link; ComponentLink1URL: https://www.we-online.com/redexpert/article/74438335022HT?ad; ComponentLink2Description: Datasheet Link; ComponentLink2URL: https://www.we-online.com/redexpert/spec/74438335022HT?ad; Mount: Surface Mount; Operating Temperature Max: 150°C; Operating Temperature Min: -55°C; Packaging: Tape and Reel; Length: 3mm; Width: 1.5mm; Height: 1.5mm; DC Resistance Max: 96mOhm; Inductance: 2.2uH; Rated Current: 3.2A
footprint WE-MAPI_3015
simulation model 3015HT_74438335022HT_2.2u
pins: 1, 2

## 74438335033
designator L?, comment 3.3uH, 1.7A  (value not drawn)
WE-MAPI, size 3015, 3.3uH, 1.7A, 131mOhm; Manufacturer Part Number: 74438335033; Manufacturer: Wurth Elektronik; Case/Size Code: 3015; DC Resistance: 114mOhm; Saturation Current: 3.2A; Self Resonant Frequency: 35MHz; Match Code: WE-MAPI; ComponentLink1Description: Website Link; ComponentLink1URL: https://www.we-online.com/redexpert/article/74438335033?ad; ComponentLink2Description: Datasheet Link; ComponentLink2URL: https://www.we-online.com/redexpert/spec/74438335033?ad; Mount: Surface Mount; Operating Temperature Max: 125°C; Operating Temperature Min: -40°C; Packaging: Tape and Reel; Length: 3mm; Width: 3mm; Height: 1.5mm; DC Resistance Max: 131mOhm; Inductance: 3.3uH; Rated Current: 1.7A
footprint WE-MAPI_3015
simulation model 3015_74438335033_3.3u
pins: 1, 2

## 74438335033HT
designator L?, comment 3.3uH, 6.8A  (value not drawn)
WE-MAPI, size 3015, 3.3uH, 6.8A, 133mOhm; Manufacturer Part Number: 74438335033HT; Manufacturer: Wurth Elektronik; Case/Size Code: 3015; Operating Voltage (DC): 80V; Saturation Current: 4A; Self Resonant Frequency: 35MHz; Match Code: WE-MAPI; ComponentLink1Description: Website Link; ComponentLink1URL: https://www.we-online.com/redexpert/article/74438335033HT?ad; ComponentLink2Description: Datasheet Link; ComponentLink2URL: https://www.we-online.com/redexpert/spec/74438335033HT?ad; Mount: Surface Mount; Operating Temperature Max: 150°C; Operating Temperature Min: -55°C; Packaging: Tape and Reel; Length: 3mm; Width: 1.5mm; Height: 1.5mm; DC Resistance Max: 133mOhm; Inductance: 3.3uH; Rated Current: 6.8A
footprint WE-MAPI_3015
simulation model 3015HT_74438335033HT_3.3u
pins: 1, 2

## 74438335047
designator L?, comment 4.7uH, 1.5A  (value not drawn)
WE-MAPI, size 3015, 4.7uH, 1.5A, 162mOhm; Manufacturer Part Number: 74438335047; Manufacturer: Wurth Elektronik; Case/Size Code: 3015; DC Resistance: 141mOhm; Saturation Current: 2.8A; Self Resonant Frequency: 30MHz; Match Code: WE-MAPI; ComponentLink1Description: Website Link; ComponentLink1URL: https://www.we-online.com/redexpert/article/74438335047?ad; ComponentLink2Description: Datasheet Link; ComponentLink2URL: https://www.we-online.com/redexpert/spec/74438335047?ad; Mount: Surface Mount; Operating Temperature Max: 125°C; Operating Temperature Min: -40°C; Packaging: Tape and Reel; Length: 3mm; Width: 3mm; Height: 1.5mm; DC Resistance Max: 162mOhm; Inductance: 4.7uH; Rated Current: 1.5A
footprint WE-MAPI_3015
simulation model 3015_74438335047_4.7u
pins: 1, 2

## 74438335047HT
designator L?, comment 4.7uH, 2.2A  (value not drawn)
WE-MAPI, size 3015, 4.7uH, 2.2A, 187.4mOhm; Manufacturer Part Number: 74438335047HT; Manufacturer: Wurth Elektronik; Case/Size Code: 3015; Operating Voltage (DC): 80V; Saturation Current: 3.2A; Self Resonant Frequency: 26MHz; Match Code: WE-MAPI; ComponentLink1Description: Website Link; ComponentLink1URL: https://www.we-online.com/redexpert/article/74438335047HT?ad; ComponentLink2Description: Datasheet Link; ComponentLink2URL: https://www.we-online.com/redexpert/spec/74438335047HT?ad; Mount: Surface Mount; Operating Temperature Max: 150°C; Operating Temperature Min: -55°C; Packaging: Tape and Reel; Length: 3mm; Width: 1.5mm; Height: 1.5mm; DC Resistance Max: 187.4mOhm; Inductance: 4.7uH; Rated Current: 2.2A
footprint WE-MAPI_3015
simulation model 3015HT_74438335047HT_4.7u
pins: 1, 2

## 74438335068
designator L?, comment 6.8uH, 1.1A  (value not drawn)
WE-MAPI, size 3015, 6.8uH, 1.1A, 287mOhm; Manufacturer Part Number: 74438335068; Manufacturer: Wurth Elektronik; Case/Size Code: 3015; DC Resistance: 250mOhm; Saturation Current: 2.4A; Self Resonant Frequency: 25MHz; Match Code: WE-MAPI; ComponentLink1Description: Website Link; ComponentLink1URL: https://www.we-online.com/redexpert/article/74438335068?ad; ComponentLink2Description: Datasheet Link; ComponentLink2URL: https://www.we-online.com/redexpert/spec/74438335068?ad; Mount: Surface Mount; Operating Temperature Max: 125°C; Operating Temperature Min: -40°C; Packaging: Tape and Reel; Length: 3mm; Width: 3mm; Height: 1.5mm; DC Resistance Max: 287mOhm; Inductance: 6.8uH; Rated Current: 1.1A
footprint WE-MAPI_3015
simulation model 3015_74438335068_6.8u
pins: 1, 2

## 74438335068HT
designator L?, comment 6.8uH, 1.7A  (value not drawn)
WE-MAPI, size 3015, 6.8uH, 1.7A, 310.7mOhm; Manufacturer Part Number: 74438335068HT; Manufacturer: Wurth Elektronik; Case/Size Code: 3015; Operating Voltage (DC): 80V; Saturation Current: 3A; Self Resonant Frequency: 22MHz; Match Code: WE-MAPI; ComponentLink1Description: Website Link; ComponentLink1URL: https://www.we-online.com/redexpert/article/74438335068HT?ad; ComponentLink2Description: Datasheet Link; ComponentLink2URL: https://www.we-online.com/redexpert/spec/74438335068HT?ad; Mount: Surface Mount; Operating Temperature Max: 150°C; Operating Temperature Min: -55°C; Packaging: Tape and Reel; Length: 3mm; Width: 1.5mm; Height: 1.5mm; DC Resistance Max: 310.7mOhm; Inductance: 6.8uH; Rated Current: 1.7A
footprint WE-MAPI_3015
simulation model 3015HT_74438335068HT_6.8u
pins: 1, 2

## 74438335100
designator L?, comment 10uH, 0.85A  (value not drawn)
WE-MAPI, size 3015, 10uH, 0.85A, 513mOhm; Manufacturer Part Number: 74438335100; Manufacturer: Wurth Elektronik; Case/Size Code: 3015; DC Resistance: 446mOhm; Saturation Current: 2A; Self Resonant Frequency: 21MHz; Match Code: WE-MAPI; ComponentLink1Description: Website Link; ComponentLink1URL: https://www.we-online.com/redexpert/article/74438335100?ad; ComponentLink2Description: Datasheet Link; ComponentLink2URL: https://www.we-online.com/redexpert/spec/74438335100?ad; Mount: Surface Mount; Operating Temperature Max: 125°C; Operating Temperature Min: -40°C; Packaging: Tape and Reel; Length: 3mm; Width: 3mm; Height: 1.5mm; DC Resistance Max: 513mOhm; Inductance: 10uH; Rated Current: 0.85A
footprint WE-MAPI_3015
simulation model 3015_74438335100_10u
pins: 1, 2

## 74438335100HT
designator L?, comment 10uH, 1.2A  (value not drawn)
WE-MAPI, size 3015, 10uH, 1.2A, 549.5mOhm; Manufacturer Part Number: 74438335100HT; Manufacturer: Wurth Elektronik; Case/Size Code: 3015; Operating Voltage (DC): 80V; Saturation Current: 2.4A; Self Resonant Frequency: 19MHz; Match Code: WE-MAPI; ComponentLink1Description: Website Link; ComponentLink1URL: https://www.we-online.com/redexpert/article/74438335100HT?ad; ComponentLink2Description: Datasheet Link; ComponentLink2URL: https://www.we-online.com/redexpert/spec/74438335100HT?ad; Mount: Surface Mount; Operating Temperature Max: 150°C; Operating Temperature Min: -55°C; Packaging: Tape and Reel; Length: 3mm; Width: 1.5mm; Height: 1.5mm; DC Resistance Max: 549.5mOhm; Inductance: 10uH; Rated Current: 1.2A
footprint WE-MAPI_3015
simulation model 3015HT_74438335100HT_10u
pins: 1, 2

## 74438335150
designator L?, comment 15uH, 0.65A  (value not drawn)
WE-MAPI, size 3015, 15uH, 0.65A, 830mOhm; Manufacturer Part Number: 74438335150; Manufacturer: Wurth Elektronik; Case/Size Code: 3015; DC Resistance: 720mOhm; Saturation Current: 1.71A; Self Resonant Frequency: 14MHz; Match Code: WE-MAPI; ComponentLink1Description: Website Link; ComponentLink1URL: https://www.we-online.com/redexpert/article/74438335150?ad; ComponentLink2Description: Datasheet Link; ComponentLink2URL: https://www.we-online.com/redexpert/spec/74438335150?ad; Mount: Surface Mount; Operating Temperature Max: 125°C; Operating Temperature Min: -40°C; Packaging: Tape and Reel; Length: 3mm; Width: 3mm; Height: 1.5mm; DC Resistance Max: 830mOhm; Inductance: 15uH; Rated Current: 0.65A
footprint WE-MAPI_3015
simulation model 3015_74438335150_15u
pins: 1, 2

## 74438335220
designator L?, comment 22uH, 0.6A  (value not drawn)
WE-MAPI, size 3015, 22uH, 0.6A, 1040mOhm; Manufacturer Part Number: 74438335220; Manufacturer: Wurth Elektronik; Case/Size Code: 3015; DC Resistance: 940mOhm; Saturation Current: 1.6A; Self Resonant Frequency: 12MHz; Match Code: WE-MAPI; ComponentLink1Description: Website Link; ComponentLink1URL: https://www.we-online.com/redexpert/article/74438335220?ad; ComponentLink2Description: Datasheet Link; ComponentLink2URL: https://www.we-online.com/redexpert/spec/74438335220?ad; Mount: Surface Mount; Operating Temperature Max: 125°C; Operating Temperature Min: -40°C; Packaging: Tape and Reel; Length: 3mm; Width: 3mm; Height: 1.5mm; DC Resistance Max: 1040mOhm; Inductance: 22uH; Rated Current: 0.6A
footprint WE-MAPI_3015
simulation model 3015_74438335220_22u
pins: 1, 2

## 74438335330
designator L?, comment 33uH, 0.5A  (value not drawn)
WE-MAPI, size 3015, 33uH, 0.5A, 1330mOhm; Manufacturer Part Number: 74438335330; Manufacturer: Wurth Elektronik; Case/Size Code: 3015; DC Resistance: 1210mOhm; Saturation Current: 1.3A; Self Resonant Frequency: 10MHz; Match Code: WE-MAPI; ComponentLink1Description: Website Link; ComponentLink1URL: https://www.we-online.com/redexpert/article/74438335330?ad; ComponentLink2Description: Datasheet Link; ComponentLink2URL: https://www.we-online.com/redexpert/spec/74438335330?ad; Mount: Surface Mount; Operating Temperature Max: 125°C; Operating Temperature Min: -40°C; Packaging: Tape and Reel; Length: 3mm; Width: 3mm; Height: 1.5mm; DC Resistance Max: 1330mOhm; Inductance: 33uH; Rated Current: 0.5A
footprint WE-MAPI_3015
simulation model 3015_74438335330_33u
pins: 1, 2